# Altium schematic symbol library Header_KYCON_KPJX_4S.Schlib: 1 symbol
Pins are listed as number, name and electrical type; pins without a type are passive.

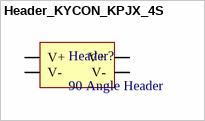
[diagram p0: symbol Header_KYCON_KPJX_4S]

## Header_KYCON_KPJX_4S
designator Header?, comment 90 Angle Header
footprint Header_KYCON_KPJS_4S
pins: 1 V+, 2 V-, 3 V-, 4 V+